# Altium schematic symbol library microchip.SchLib: 1 symbol
Pins are listed as number, name and electrical type; pins without a type are passive.

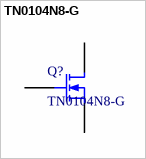
[diagram p0: symbol TN0104N8-G]

## TN0104N8-G
designator Q?
N-Channel Enhancement-Mode  Vertical DMOS FET
footprint TN0104N8-G (N-Channel Enhancement-Mode  Vertical DMOS FET, SOT89)
pins: 1 D, 2 G, 3 S